# Altium integrated library Silicon Labs Clocks and Oscillators.IntLib: 678 symbols (part 36 of 45)
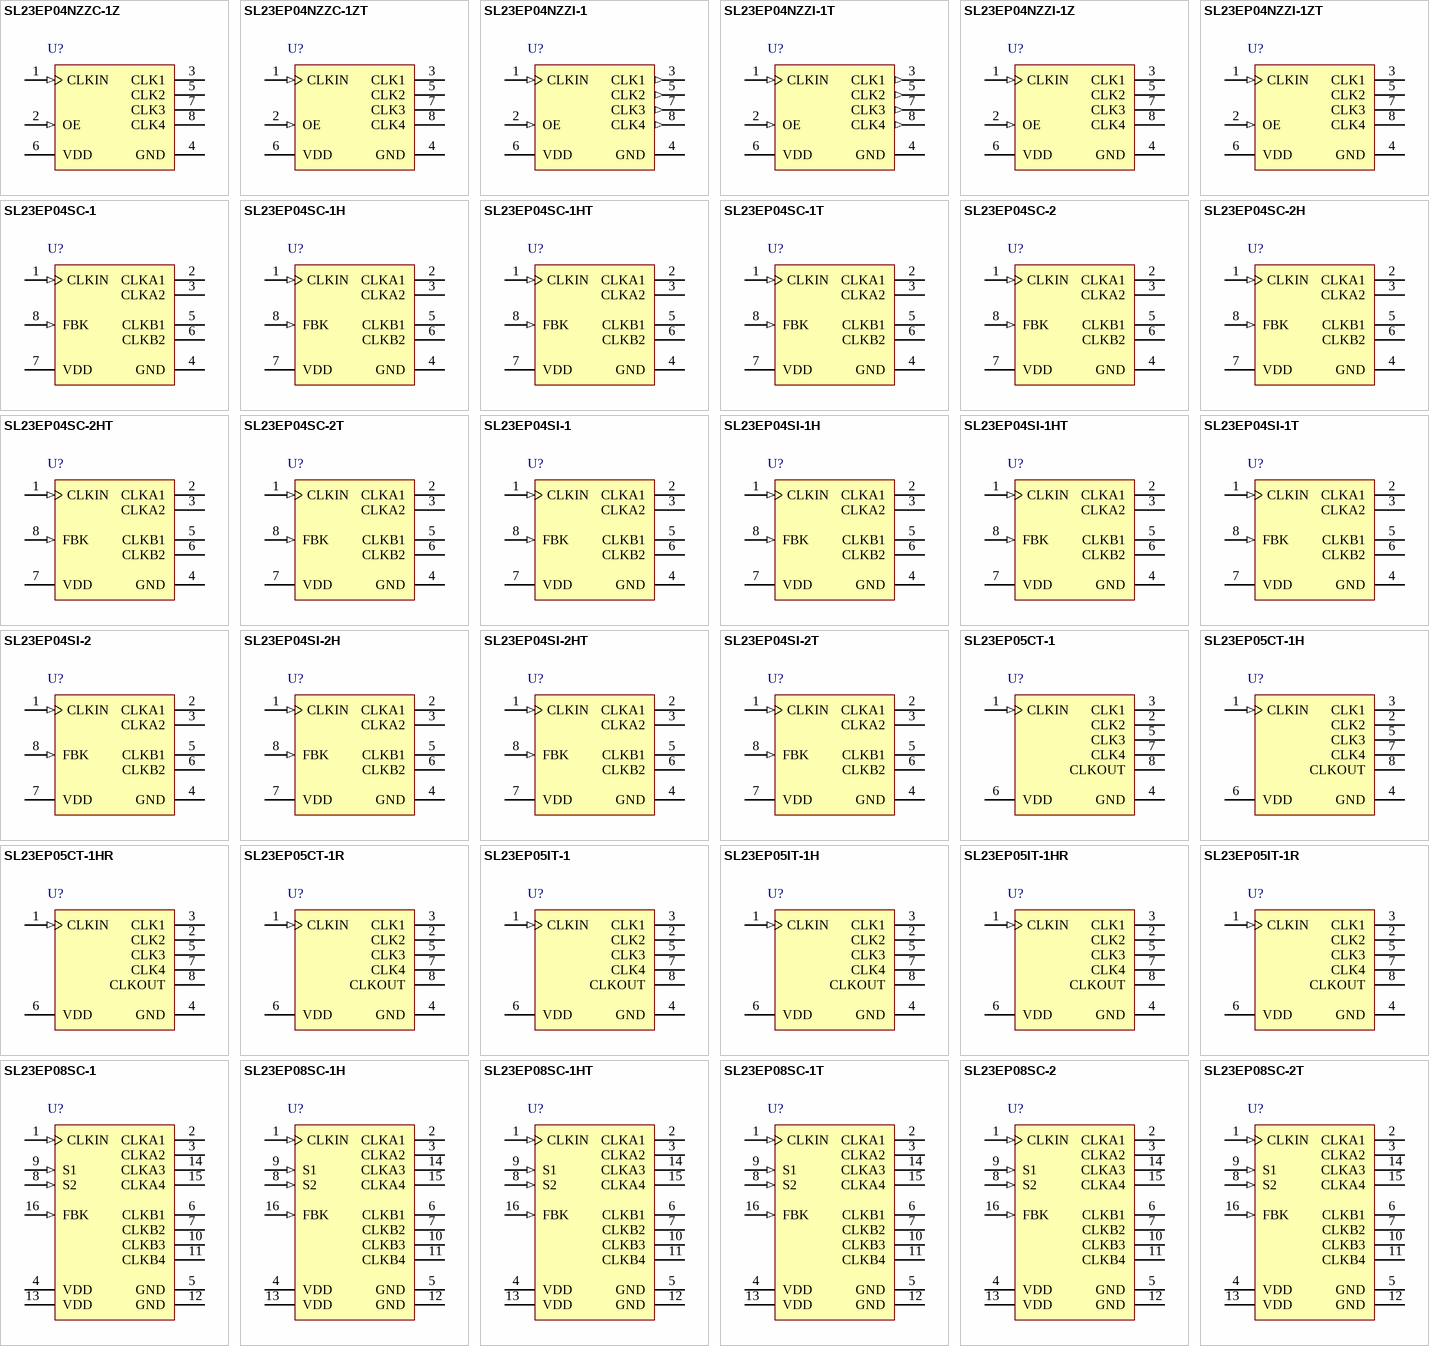
[diagram p79: symbols SL23EP04NZZC-1Z to SL23EP08SC-2T]

## SL23EP04SI-2HT
designator U?
Low Jitter and Skew Zero Delay Buffer (ZDB), 10 to 220 MHz, -40 to 85 degC, 8-pin SOIC, Tape and Reel; Manufacturer: Silicon Labs; PartNumber: SL23EP04SI-2HT; Output Format: LVCMOS; Sub-Family: Clock Buffers; DatasheetVersion: Rev. 2.1; PackageReference: SOIC-8; PackageDescription: 8-Pin Small-Outline Integrated Circuit, Body 4.9 x 3.9 mm, Pitch 1.27 mm; Supplier 1: Digi-Key; Supplier Part Number 1: SL23EP04SI-2HT-ND; Supplier 2: Mouser; Supplier Part Number 2: 634-SL23EP04SI-2HT; Frequency (MHz): 10 to 220; Packing: Tape and Reel; Mounting Technology: Surface Mount; ComponentLink1Description: Manufacturer URL; ComponentLink1URL: http://www.silabs.com/; ComponentLink2Description: Datasheet; ComponentLink2URL: http://www.silabs.com/Support%20Documents/TechnicalDocs/SL23EP04.pdf; ComponentLink3Description: Package Specification; ComponentLink3URL: http://www.silabs.com/Support%20Documents/TechnicalDocs/SL23EP04.pdf
footprint SLAB-SOIC-8_N (SOIC, 8-Leads, Body 5x4mm, Pitch 1.27mm, IPC Medium Density)
footprint SLAB-SOIC-8_L (SOIC, 8-Leads, Body 5x4mm, Pitch 1.27mm, IPC High Density)
footprint SLAB-SOIC-8_M (SOIC, 8-Leads, Body 5x4mm, Pitch 1.27mm, IPC Low Density)
pins: 1 CLKIN (in) "Reference Frequency Clock Input. Weak pull-down (250kohm).", 2 CLKA1 (hiz) "Buffered Clock Output Weak pull-down (250kohm).", 3 CLKA2 (hiz) "Buffered Clock Output. Weak pull-down (250kohm).", 4 GND (power) "Power Ground.", 5 CLKB1 (hiz) "Buffered Clock Output. Weak pull-down (250kohm).", 6 CLKB2 (hiz) "Buffered Clock Output. Weak pull-down (250kohm).", 7 VDD (power) "2.5V to 3.3V Power Supply.", 8 FBK (in) "PLL Feedback Input. This pin must be connected to one of the clock outputs."

## SL23EP04SI-2T
designator U?
Low Jitter and Skew Zero Delay Buffer (ZDB), 10 to 220 MHz, -40 to 85 degC, 8-pin SOIC, Tape and Reel; Manufacturer: Silicon Labs; PartNumber: SL23EP04SI-2T; Output Format: LVCMOS; Sub-Family: Clock Buffers; DatasheetVersion: Rev. 2.1; PackageReference: SOIC-8; PackageDescription: 8-Pin Small-Outline Integrated Circuit, Body 4.9 x 3.9 mm, Pitch 1.27 mm; Supplier 1: Digi-Key; Supplier Part Number 1: SL23EP04SI-2T-ND; Supplier 2: Mouser; Supplier Part Number 2: 634-SL23EP04SI-2T; Frequency (MHz): 10 to 220; Packing: Tape and Reel; Mounting Technology: Surface Mount; ComponentLink1Description: Manufacturer URL; ComponentLink1URL: http://www.silabs.com/; ComponentLink2Description: Datasheet; ComponentLink2URL: http://www.silabs.com/Support%20Documents/TechnicalDocs/SL23EP04.pdf; ComponentLink3Description: Package Specification; ComponentLink3URL: http://www.silabs.com/Support%20Documents/TechnicalDocs/SL23EP04.pdf
footprint SLAB-SOIC-8_N (SOIC, 8-Leads, Body 5x4mm, Pitch 1.27mm, IPC Medium Density)
footprint SLAB-SOIC-8_L (SOIC, 8-Leads, Body 5x4mm, Pitch 1.27mm, IPC High Density)
footprint SLAB-SOIC-8_M (SOIC, 8-Leads, Body 5x4mm, Pitch 1.27mm, IPC Low Density)
pins: 1 CLKIN (in) "Reference Frequency Clock Input. Weak pull-down (250kohm).", 2 CLKA1 (hiz) "Buffered Clock Output Weak pull-down (250kohm).", 3 CLKA2 (hiz) "Buffered Clock Output. Weak pull-down (250kohm).", 4 GND (power) "Power Ground.", 5 CLKB1 (hiz) "Buffered Clock Output. Weak pull-down (250kohm).", 6 CLKB2 (hiz) "Buffered Clock Output. Weak pull-down (250kohm).", 7 VDD (power) "2.5V to 3.3V Power Supply.", 8 FBK (in) "PLL Feedback Input. This pin must be connected to one of the clock outputs."

## SL23EP05CT-1
designator U?
Low Jitter and Skew Zero Delay Buffer (ZDB), 10 to 220 MHz, 0 to 70 degC, 8-pin SOIC , Tube; Manufacturer: Silicon Labs; PartNumber: SL23EP05CT-1; Output Format: LVCMOS; Sub-Family: Clock Buffers; DatasheetVersion: Rev. 0.0; PackageReference: SOIC-8; PackageDescription: 8-Pin Small-Outline Integrated Circuit, Body 4.9 x 3.9 mm, Pitch 1.27 mm; Frequency (MHz): 10 to 220; Packing: Tube; Mounting Technology: Surface Mount; ComponentLink1Description: Manufacturer URL; ComponentLink1URL: http://www.silabs.com/; ComponentLink2Description: Datasheet; ComponentLink2URL: http://www.silabs.com/Support%20Documents/TechnicalDocs/SL23EP05.pdf; ComponentLink3Description: Package Specification; ComponentLink3URL: http://www.silabs.com/Support%20Documents/TechnicalDocs/SL23EP04.pdf
footprint SLAB-SOIC-8_N (SOIC, 8-Leads, Body 5x4mm, Pitch 1.27mm, IPC Medium Density)
footprint SLAB-SOIC-8_L (SOIC, 8-Leads, Body 5x4mm, Pitch 1.27mm, IPC High Density)
footprint SLAB-SOIC-8_M (SOIC, 8-Leads, Body 5x4mm, Pitch 1.27mm, IPC Low Density)
pins: 1 CLKIN (in) "Reference Frequency Clock Input. Weak pull-down.", 2 CLK2 (hiz) "Buffered Clock Output Weak pull-down.", 3 CLK1 (hiz) "Buffered Clock Output. Weak pull-down.", 4 GND (power) "Power Ground.", 5 CLK3 (hiz) "Buffered Clock Output. Weak pull-down.", 6 VDD (power), 7 CLK4 (hiz) "Buffered Clock Output. Weak pull-down.", 8 CLKOUT (hiz) "Buffered Clock Output, Used for Internal Feedback to PLL Input. Weak pull-down."

## SL23EP05CT-1H
designator U?
Low Jitter and Skew Zero Delay Buffer (ZDB), 10 to 220 MHz, 0 to 70 degC, 8-pin SOIC , Tube; Manufacturer: Silicon Labs; PartNumber: SL23EP05CT-1H; Output Format: LVCMOS; Sub-Family: Clock Buffers; DatasheetVersion: Rev. 0.0; PackageReference: SOIC-8; PackageDescription: 8-Pin Small-Outline Integrated Circuit, Body 4.9 x 3.9 mm, Pitch 1.27 mm; Frequency (MHz): 10 to 220; Packing: Tube; Mounting Technology: Surface Mount; ComponentLink1Description: Manufacturer URL; ComponentLink1URL: http://www.silabs.com/; ComponentLink2Description: Datasheet; ComponentLink2URL: http://www.silabs.com/Support%20Documents/TechnicalDocs/SL23EP05.pdf; ComponentLink3Description: Package Specification; ComponentLink3URL: http://www.silabs.com/Support%20Documents/TechnicalDocs/SL23EP04.pdf
footprint SLAB-SOIC-8_N (SOIC, 8-Leads, Body 5x4mm, Pitch 1.27mm, IPC Medium Density)
footprint SLAB-SOIC-8_L (SOIC, 8-Leads, Body 5x4mm, Pitch 1.27mm, IPC High Density)
footprint SLAB-SOIC-8_M (SOIC, 8-Leads, Body 5x4mm, Pitch 1.27mm, IPC Low Density)
pins: 1 CLKIN (in) "Reference Frequency Clock Input. Weak pull-down.", 2 CLK2 (hiz) "Buffered Clock Output Weak pull-down.", 3 CLK1 (hiz) "Buffered Clock Output. Weak pull-down.", 4 GND (power) "Power Ground.", 5 CLK3 (hiz) "Buffered Clock Output. Weak pull-down.", 6 VDD (power), 7 CLK4 (hiz) "Buffered Clock Output. Weak pull-down.", 8 CLKOUT (hiz) "Buffered Clock Output, Used for Internal Feedback to PLL Input. Weak pull-down."

## SL23EP05CT-1HR
designator U?
Low Jitter and Skew Zero Delay Buffer (ZDB), 10 to 220 MHz, 0 to 70 degC, 8-pin SOIC , Tape and Reel; Manufacturer: Silicon Labs; PartNumber: SL23EP05CT-1HR; Output Format: LVCMOS; Sub-Family: Clock Buffers; DatasheetVersion: Rev. 0.0; PackageReference: SOIC-8; PackageDescription: 8-Pin Small-Outline Integrated Circuit, Body 4.9 x 3.9 mm, Pitch 1.27 mm; Frequency (MHz): 10 to 220; Packing: Tape and Reel; Mounting Technology: Surface Mount; ComponentLink1Description: Manufacturer URL; ComponentLink1URL: http://www.silabs.com/; ComponentLink2Description: Datasheet; ComponentLink2URL: http://www.silabs.com/Support%20Documents/TechnicalDocs/SL23EP05.pdf; ComponentLink3Description: Package Specification; ComponentLink3URL: http://www.silabs.com/Support%20Documents/TechnicalDocs/SL23EP04.pdf
footprint SLAB-SOIC-8_N (SOIC, 8-Leads, Body 5x4mm, Pitch 1.27mm, IPC Medium Density)
footprint SLAB-SOIC-8_L (SOIC, 8-Leads, Body 5x4mm, Pitch 1.27mm, IPC High Density)
footprint SLAB-SOIC-8_M (SOIC, 8-Leads, Body 5x4mm, Pitch 1.27mm, IPC Low Density)
pins: 1 CLKIN (in) "Reference Frequency Clock Input. Weak pull-down.", 2 CLK2 (hiz) "Buffered Clock Output Weak pull-down.", 3 CLK1 (hiz) "Buffered Clock Output. Weak pull-down.", 4 GND (power) "Power Ground.", 5 CLK3 (hiz) "Buffered Clock Output. Weak pull-down.", 6 VDD (power), 7 CLK4 (hiz) "Buffered Clock Output. Weak pull-down.", 8 CLKOUT (hiz) "Buffered Clock Output, Used for Internal Feedback to PLL Input. Weak pull-down."

## SL23EP05CT-1R
designator U?
Low Jitter and Skew Zero Delay Buffer (ZDB), 10 to 220 MHz, 0 to 70 degC, 8-pin SOIC , Tape and Reel; Manufacturer: Silicon Labs; PartNumber: SL23EP05CT-1R; Output Format: LVCMOS; Sub-Family: Clock Buffers; DatasheetVersion: Rev. 0.0; PackageReference: SOIC-8; PackageDescription: 8-Pin Small-Outline Integrated Circuit, Body 4.9 x 3.9 mm, Pitch 1.27 mm; Frequency (MHz): 10 to 220; Packing: Tape and Reel; Mounting Technology: Surface Mount; ComponentLink1Description: Manufacturer URL; ComponentLink1URL: http://www.silabs.com/; ComponentLink2Description: Datasheet; ComponentLink2URL: http://www.silabs.com/Support%20Documents/TechnicalDocs/SL23EP05.pdf; ComponentLink3Description: Package Specification; ComponentLink3URL: http://www.silabs.com/Support%20Documents/TechnicalDocs/SL23EP04.pdf
footprint SLAB-SOIC-8_N (SOIC, 8-Leads, Body 5x4mm, Pitch 1.27mm, IPC Medium Density)
footprint SLAB-SOIC-8_L (SOIC, 8-Leads, Body 5x4mm, Pitch 1.27mm, IPC High Density)
footprint SLAB-SOIC-8_M (SOIC, 8-Leads, Body 5x4mm, Pitch 1.27mm, IPC Low Density)
pins: 1 CLKIN (in) "Reference Frequency Clock Input. Weak pull-down.", 2 CLK2 (hiz) "Buffered Clock Output Weak pull-down.", 3 CLK1 (hiz) "Buffered Clock Output. Weak pull-down.", 4 GND (power) "Power Ground.", 5 CLK3 (hiz) "Buffered Clock Output. Weak pull-down.", 6 VDD (power), 7 CLK4 (hiz) "Buffered Clock Output. Weak pull-down.", 8 CLKOUT (hiz) "Buffered Clock Output, Used for Internal Feedback to PLL Input. Weak pull-down."

## SL23EP05IT-1
designator U?
Low Jitter and Skew Zero Delay Buffer (ZDB), 10 to 220 MHz, -40 to 85 degC, 8-pin SOIC , Tube; Manufacturer: Silicon Labs; PartNumber: SL23EP05IT-1; Output Format: LVCMOS; Sub-Family: Clock Buffers; DatasheetVersion: Rev. 0.0; PackageReference: SOIC-8; PackageDescription: 8-Pin Small-Outline Integrated Circuit, Body 4.9 x 3.9 mm, Pitch 1.27 mm; Frequency (MHz): 10 to 220; Packing: Tube; Mounting Technology: Surface Mount; ComponentLink1Description: Manufacturer URL; ComponentLink1URL: http://www.silabs.com/; ComponentLink2Description: Datasheet; ComponentLink2URL: http://www.silabs.com/Support%20Documents/TechnicalDocs/SL23EP05.pdf; ComponentLink3Description: Package Specification; ComponentLink3URL: http://www.silabs.com/Support%20Documents/TechnicalDocs/SL23EP04.pdf
footprint SLAB-SOIC-8_N (SOIC, 8-Leads, Body 5x4mm, Pitch 1.27mm, IPC Medium Density)
footprint SLAB-SOIC-8_L (SOIC, 8-Leads, Body 5x4mm, Pitch 1.27mm, IPC High Density)
footprint SLAB-SOIC-8_M (SOIC, 8-Leads, Body 5x4mm, Pitch 1.27mm, IPC Low Density)
pins: 1 CLKIN (in) "Reference Frequency Clock Input. Weak pull-down.", 2 CLK2 (hiz) "Buffered Clock Output Weak pull-down.", 3 CLK1 (hiz) "Buffered Clock Output. Weak pull-down.", 4 GND (power) "Power Ground.", 5 CLK3 (hiz) "Buffered Clock Output. Weak pull-down.", 6 VDD (power), 7 CLK4 (hiz) "Buffered Clock Output. Weak pull-down.", 8 CLKOUT (hiz) "Buffered Clock Output, Used for Internal Feedback to PLL Input. Weak pull-down."

## SL23EP05IT-1H
designator U?
Low Jitter and Skew Zero Delay Buffer (ZDB), 10 to 220 MHz, -40 to 85 degC, 8-pin SOIC , Tube; Manufacturer: Silicon Labs; PartNumber: SL23EP05IT-1H; Output Format: LVCMOS; Sub-Family: Clock Buffers; DatasheetVersion: Rev. 0.0; PackageReference: SOIC-8; PackageDescription: 8-Pin Small-Outline Integrated Circuit, Body 4.9 x 3.9 mm, Pitch 1.27 mm; Frequency (MHz): 10 to 220; Packing: Tube; Mounting Technology: Surface Mount; ComponentLink1Description: Manufacturer URL; ComponentLink1URL: http://www.silabs.com/; ComponentLink2Description: Datasheet; ComponentLink2URL: http://www.silabs.com/Support%20Documents/TechnicalDocs/SL23EP05.pdf; ComponentLink3Description: Package Specification; ComponentLink3URL: http://www.silabs.com/Support%20Documents/TechnicalDocs/SL23EP04.pdf
footprint SLAB-SOIC-8_N (SOIC, 8-Leads, Body 5x4mm, Pitch 1.27mm, IPC Medium Density)
footprint SLAB-SOIC-8_L (SOIC, 8-Leads, Body 5x4mm, Pitch 1.27mm, IPC High Density)
footprint SLAB-SOIC-8_M (SOIC, 8-Leads, Body 5x4mm, Pitch 1.27mm, IPC Low Density)
pins: 1 CLKIN (in) "Reference Frequency Clock Input. Weak pull-down.", 2 CLK2 (hiz) "Buffered Clock Output Weak pull-down.", 3 CLK1 (hiz) "Buffered Clock Output. Weak pull-down.", 4 GND (power) "Power Ground.", 5 CLK3 (hiz) "Buffered Clock Output. Weak pull-down.", 6 VDD (power), 7 CLK4 (hiz) "Buffered Clock Output. Weak pull-down.", 8 CLKOUT (hiz) "Buffered Clock Output, Used for Internal Feedback to PLL Input. Weak pull-down."

## SL23EP05IT-1HR
designator U?
Low Jitter and Skew Zero Delay Buffer (ZDB), 10 to 220 MHz, -40 to 85 degC, 8-pin SOIC , Tape and Reel; Manufacturer: Silicon Labs; PartNumber: SL23EP05IT-1HR; Output Format: LVCMOS; Sub-Family: Clock Buffers; DatasheetVersion: Rev. 0.0; PackageReference: SOIC-8; PackageDescription: 8-Pin Small-Outline Integrated Circuit, Body 4.9 x 3.9 mm, Pitch 1.27 mm; Frequency (MHz): 10 to 220; Packing: Tape and Reel; Mounting Technology: Surface Mount; ComponentLink1Description: Manufacturer URL; ComponentLink1URL: http://www.silabs.com/; ComponentLink2Description: Datasheet; ComponentLink2URL: http://www.silabs.com/Support%20Documents/TechnicalDocs/SL23EP05.pdf; ComponentLink3Description: Package Specification; ComponentLink3URL: http://www.silabs.com/Support%20Documents/TechnicalDocs/SL23EP04.pdf
footprint SLAB-SOIC-8_N (SOIC, 8-Leads, Body 5x4mm, Pitch 1.27mm, IPC Medium Density)
footprint SLAB-SOIC-8_L (SOIC, 8-Leads, Body 5x4mm, Pitch 1.27mm, IPC High Density)
footprint SLAB-SOIC-8_M (SOIC, 8-Leads, Body 5x4mm, Pitch 1.27mm, IPC Low Density)
pins: 1 CLKIN (in) "Reference Frequency Clock Input. Weak pull-down.", 2 CLK2 (hiz) "Buffered Clock Output Weak pull-down.", 3 CLK1 (hiz) "Buffered Clock Output. Weak pull-down.", 4 GND (power) "Power Ground.", 5 CLK3 (hiz) "Buffered Clock Output. Weak pull-down.", 6 VDD (power), 7 CLK4 (hiz) "Buffered Clock Output. Weak pull-down.", 8 CLKOUT (hiz) "Buffered Clock Output, Used for Internal Feedback to PLL Input. Weak pull-down."

## SL23EP05IT-1R
designator U?
Low Jitter and Skew Zero Delay Buffer (ZDB), 10 to 220 MHz, -40 to 85 degC, 8-pin SOIC , Tape and Reel; Manufacturer: Silicon Labs; PartNumber: SL23EP05IT-1R; Output Format: LVCMOS; Sub-Family: Clock Buffers; DatasheetVersion: Rev. 0.0; PackageReference: SOIC-8; PackageDescription: 8-Pin Small-Outline Integrated Circuit, Body 4.9 x 3.9 mm, Pitch 1.27 mm; Frequency (MHz): 10 to 220; Packing: Tape and Reel; Mounting Technology: Surface Mount; ComponentLink1Description: Manufacturer URL; ComponentLink1URL: http://www.silabs.com/; ComponentLink2Description: Datasheet; ComponentLink2URL: http://www.silabs.com/Support%20Documents/TechnicalDocs/SL23EP05.pdf; ComponentLink3Description: Package Specification; ComponentLink3URL: http://www.silabs.com/Support%20Documents/TechnicalDocs/SL23EP04.pdf
footprint SLAB-SOIC-8_N (SOIC, 8-Leads, Body 5x4mm, Pitch 1.27mm, IPC Medium Density)
footprint SLAB-SOIC-8_L (SOIC, 8-Leads, Body 5x4mm, Pitch 1.27mm, IPC High Density)
footprint SLAB-SOIC-8_M (SOIC, 8-Leads, Body 5x4mm, Pitch 1.27mm, IPC Low Density)
pins: 1 CLKIN (in) "Reference Frequency Clock Input. Weak pull-down.", 2 CLK2 (hiz) "Buffered Clock Output Weak pull-down.", 3 CLK1 (hiz) "Buffered Clock Output. Weak pull-down.", 4 GND (power) "Power Ground.", 5 CLK3 (hiz) "Buffered Clock Output. Weak pull-down.", 6 VDD (power), 7 CLK4 (hiz) "Buffered Clock Output. Weak pull-down.", 8 CLKOUT (hiz) "Buffered Clock Output, Used for Internal Feedback to PLL Input. Weak pull-down."

## SL23EP08SC-1
designator U?
Low Jitter and Skew Zero Delay Buffer (ZDB), 10 to 220 MHz, 0 to 70 degC, 16-pin SOIC, Tube; Manufacturer: Silicon Labs; PartNumber: SL23EP08SC-1; Output Format: LVCMOS; Sub-Family: Clock Buffers; DatasheetVersion: Rev. 1.0; PackageReference: SOIC-16; PackageDescription: 16-Pin Small-Outline Integrated Circuit, Body 9.9 x 3.9 mm, Pitch 1.27 mm; Supplier 1: Digi-Key; Supplier Part Number 1: SL23EP08SC-1-ND; Supplier 2: Mouser; Supplier Part Number 2: 634-SL23EP08SC-1; Frequency (MHz): 10 to 220; Packing: Tube; Mounting Technology: Surface Mount; ComponentLink1Description: Manufacturer URL; ComponentLink1URL: http://www.silabs.com/; ComponentLink2Description: Datasheet; ComponentLink2URL: http://www.silabs.com/Support%20Documents/TechnicalDocs/SL23EP08.pdf; ComponentLink3Description: Package Specification; ComponentLink3URL: http://www.silabs.com/Support%20Documents/TechnicalDocs/SL2309.pdf
footprint SLAB-SOIC-16_N (SOIC, 16-Leads, Body 10x4mm, Pitch 1.27mm, IPC Medium Density)
footprint SLAB-SOIC-16_L (SOIC, 16-Leads, Body 10x4mm, Pitch 1.27mm, IPC High Density)
footprint SLAB-SOIC-16_M (SOIC, 16-Leads, Body 10x4mm, Pitch 1.27mm, IPC Low Density)
pins: 1 CLKIN (in) "Reference Frequency Clock Input. 5V tolerant input. Weak pull-down (250k ohm)", 2 CLKA1 (hiz) "Buffered Clock Output, Bank A. Weak pull-down (250k ohm).", 3 CLKA2 (hiz) "Buffered Clock Output, Bank A. Weak pull-down (250k ohm).", 4 VDD (power) "3.3V or 2.5V Power Supply.", 5 GND (power) "Power Ground.", 6 CLKB1 (hiz) "Buffered Clock Output, Bank B. Weak pull-down (250k ohm).", 7 CLKB2 (hiz) "Buffered Clock Output, Bank B. Weak pull-down (250k ohm).", 8 S2 (in) "Select Input, select pin S2. Weak pull-up (250k ohm).", 9 S1 (in) "Select Input, select pin S1. Weak pull-up (250k ohm).", 10 CLKB3 (hiz) "Buffered Clock Output, Bank B. Weak pull-down (250k ohm).", 11 CLKB4 (hiz) "Buffered Clock Output, Bank B. Weak pull-down (250k ohm).", 12 GND (power) "Power Ground.", 13 VDD (power) "3.3V or 2.5V Power Supply.", 14 CLKA3 (hiz) "Buffered Clock Output, Bank A. Weak pull-down (250k ohm).", 15 CLKA4 (hiz) "Buffered Clock Output, Bank A. Weak pull-down (250k ohm).", 16 FBK (in) "PLL Feedback input."

## SL23EP08SC-1H
designator U?
Low Jitter and Skew Zero Delay Buffer (ZDB), 10 to 220 MHz, 0 to 70 degC, 16-pin SOIC, Tube; Manufacturer: Silicon Labs; PartNumber: SL23EP08SC-1H; Output Format: LVCMOS; Sub-Family: Clock Buffers; DatasheetVersion: Rev. 1.0; PackageReference: SOIC-16; PackageDescription: 16-Pin Small-Outline Integrated Circuit, Body 9.9 x 3.9 mm, Pitch 1.27 mm; Supplier 1: Digi-Key; Supplier Part Number 1: SL23EP08SC-1H-ND; Supplier 2: Mouser; Supplier Part Number 2: 634-SL23EP08SC-1H; Frequency (MHz): 10 to 220; Packing: Tube; Mounting Technology: Surface Mount; ComponentLink1Description: Manufacturer URL; ComponentLink1URL: http://www.silabs.com/; ComponentLink2Description: Datasheet; ComponentLink2URL: http://www.silabs.com/Support%20Documents/TechnicalDocs/SL23EP08.pdf; ComponentLink3Description: Package Specification; ComponentLink3URL: http://www.silabs.com/Support%20Documents/TechnicalDocs/SL2309.pdf
footprint SLAB-SOIC-16_N (SOIC, 16-Leads, Body 10x4mm, Pitch 1.27mm, IPC Medium Density)
footprint SLAB-SOIC-16_L (SOIC, 16-Leads, Body 10x4mm, Pitch 1.27mm, IPC High Density)
footprint SLAB-SOIC-16_M (SOIC, 16-Leads, Body 10x4mm, Pitch 1.27mm, IPC Low Density)
pins: 1 CLKIN (in) "Reference Frequency Clock Input. 5V tolerant input. Weak pull-down (250k ohm)", 2 CLKA1 (hiz) "Buffered Clock Output, Bank A. Weak pull-down (250k ohm).", 3 CLKA2 (hiz) "Buffered Clock Output, Bank A. Weak pull-down (250k ohm).", 4 VDD (power) "3.3V or 2.5V Power Supply.", 5 GND (power) "Power Ground.", 6 CLKB1 (hiz) "Buffered Clock Output, Bank B. Weak pull-down (250k ohm).", 7 CLKB2 (hiz) "Buffered Clock Output, Bank B. Weak pull-down (250k ohm).", 8 S2 (in) "Select Input, select pin S2. Weak pull-up (250k ohm).", 9 S1 (in) "Select Input, select pin S1. Weak pull-up (250k ohm).", 10 CLKB3 (hiz) "Buffered Clock Output, Bank B. Weak pull-down (250k ohm).", 11 CLKB4 (hiz) "Buffered Clock Output, Bank B. Weak pull-down (250k ohm).", 12 GND (power) "Power Ground.", 13 VDD (power) "3.3V or 2.5V Power Supply.", 14 CLKA3 (hiz) "Buffered Clock Output, Bank A. Weak pull-down (250k ohm).", 15 CLKA4 (hiz) "Buffered Clock Output, Bank A. Weak pull-down (250k ohm).", 16 FBK (in) "PLL Feedback input."

## SL23EP08SC-1HT
designator U?
Low Jitter and Skew Zero Delay Buffer (ZDB), 10 to 220 MHz, 0 to 70 degC, 16-pin SOIC, Tape and Reel; Manufacturer: Silicon Labs; PartNumber: SL23EP08SC-1HT; Output Format: LVCMOS; Sub-Family: Clock Buffers; DatasheetVersion: Rev. 1.0; PackageReference: SOIC-16; PackageDescription: 16-Pin Small-Outline Integrated Circuit, Body 9.9 x 3.9 mm, Pitch 1.27 mm; Supplier 1: Digi-Key; Supplier Part Number 1: SL23EP08SC-1HT-ND; Supplier 2: Mouser; Supplier Part Number 2: 634-SL23EP08SC-1HT; Frequency (MHz): 10 to 220; Packing: Tape and Reel; Mounting Technology: Surface Mount; ComponentLink1Description: Manufacturer URL; ComponentLink1URL: http://www.silabs.com/; ComponentLink2Description: Datasheet; ComponentLink2URL: http://www.silabs.com/Support%20Documents/TechnicalDocs/SL23EP08.pdf; ComponentLink3Description: Package Specification; ComponentLink3URL: http://www.silabs.com/Support%20Documents/TechnicalDocs/SL2309.pdf
footprint SLAB-SOIC-16_N (SOIC, 16-Leads, Body 10x4mm, Pitch 1.27mm, IPC Medium Density)
footprint SLAB-SOIC-16_L (SOIC, 16-Leads, Body 10x4mm, Pitch 1.27mm, IPC High Density)
footprint SLAB-SOIC-16_M (SOIC, 16-Leads, Body 10x4mm, Pitch 1.27mm, IPC Low Density)
pins: 1 CLKIN (in) "Reference Frequency Clock Input. 5V tolerant input. Weak pull-down (250k ohm)", 2 CLKA1 (hiz) "Buffered Clock Output, Bank A. Weak pull-down (250k ohm).", 3 CLKA2 (hiz) "Buffered Clock Output, Bank A. Weak pull-down (250k ohm).", 4 VDD (power) "3.3V or 2.5V Power Supply.", 5 GND (power) "Power Ground.", 6 CLKB1 (hiz) "Buffered Clock Output, Bank B. Weak pull-down (250k ohm).", 7 CLKB2 (hiz) "Buffered Clock Output, Bank B. Weak pull-down (250k ohm).", 8 S2 (in) "Select Input, select pin S2. Weak pull-up (250k ohm).", 9 S1 (in) "Select Input, select pin S1. Weak pull-up (250k ohm).", 10 CLKB3 (hiz) "Buffered Clock Output, Bank B. Weak pull-down (250k ohm).", 11 CLKB4 (hiz) "Buffered Clock Output, Bank B. Weak pull-down (250k ohm).", 12 GND (power) "Power Ground.", 13 VDD (power) "3.3V or 2.5V Power Supply.", 14 CLKA3 (hiz) "Buffered Clock Output, Bank A. Weak pull-down (250k ohm).", 15 CLKA4 (hiz) "Buffered Clock Output, Bank A. Weak pull-down (250k ohm).", 16 FBK (in) "PLL Feedback input."

## SL23EP08SC-1T
designator U?
Low Jitter and Skew Zero Delay Buffer (ZDB), 10 to 220 MHz, 0 to 70 degC, 16-pin SOIC, Tape and Reel; Manufacturer: Silicon Labs; PartNumber: SL23EP08SC-1T; Output Format: LVCMOS; Sub-Family: Clock Buffers; DatasheetVersion: Rev. 1.0; PackageReference: SOIC-16; PackageDescription: 16-Pin Small-Outline Integrated Circuit, Body 9.9 x 3.9 mm, Pitch 1.27 mm; Supplier 1: Digi-Key; Supplier Part Number 1: SL23EP08SC-1T-ND; Supplier 2: Mouser; Supplier Part Number 2: 634-SL23EP08SC-1T; Frequency (MHz): 10 to 220; Packing: Tape and Reel; Mounting Technology: Surface Mount; ComponentLink1Description: Manufacturer URL; ComponentLink1URL: http://www.silabs.com/; ComponentLink2Description: Datasheet; ComponentLink2URL: http://www.silabs.com/Support%20Documents/TechnicalDocs/SL23EP08.pdf; ComponentLink3Description: Package Specification; ComponentLink3URL: http://www.silabs.com/Support%20Documents/TechnicalDocs/SL2309.pdf
footprint SLAB-SOIC-16_N (SOIC, 16-Leads, Body 10x4mm, Pitch 1.27mm, IPC Medium Density)
footprint SLAB-SOIC-16_L (SOIC, 16-Leads, Body 10x4mm, Pitch 1.27mm, IPC High Density)
footprint SLAB-SOIC-16_M (SOIC, 16-Leads, Body 10x4mm, Pitch 1.27mm, IPC Low Density)
pins: 1 CLKIN (in) "Reference Frequency Clock Input. 5V tolerant input. Weak pull-down (250k ohm)", 2 CLKA1 (hiz) "Buffered Clock Output, Bank A. Weak pull-down (250k ohm).", 3 CLKA2 (hiz) "Buffered Clock Output, Bank A. Weak pull-down (250k ohm).", 4 VDD (power) "3.3V or 2.5V Power Supply.", 5 GND (power) "Power Ground.", 6 CLKB1 (hiz) "Buffered Clock Output, Bank B. Weak pull-down (250k ohm).", 7 CLKB2 (hiz) "Buffered Clock Output, Bank B. Weak pull-down (250k ohm).", 8 S2 (in) "Select Input, select pin S2. Weak pull-up (250k ohm).", 9 S1 (in) "Select Input, select pin S1. Weak pull-up (250k ohm).", 10 CLKB3 (hiz) "Buffered Clock Output, Bank B. Weak pull-down (250k ohm).", 11 CLKB4 (hiz) "Buffered Clock Output, Bank B. Weak pull-down (250k ohm).", 12 GND (power) "Power Ground.", 13 VDD (power) "3.3V or 2.5V Power Supply.", 14 CLKA3 (hiz) "Buffered Clock Output, Bank A. Weak pull-down (250k ohm).", 15 CLKA4 (hiz) "Buffered Clock Output, Bank A. Weak pull-down (250k ohm).", 16 FBK (in) "PLL Feedback input."

## SL23EP08SC-2
designator U?
Low Jitter and Skew Zero Delay Buffer (ZDB), 10 to 220 MHz, 0 to 70 degC, 16-pin SOIC, Tube; Manufacturer: Silicon Labs; PartNumber: SL23EP08SC-2; Output Format: LVCMOS; Sub-Family: Clock Buffers; DatasheetVersion: Rev. 1.0; PackageReference: SOIC-16; PackageDescription: 16-Pin Small-Outline Integrated Circuit, Body 9.9 x 3.9 mm, Pitch 1.27 mm; Supplier 1: Digi-Key; Supplier Part Number 1: SL23EP08SC-2-ND; Supplier 2: Mouser; Supplier Part Number 2: 634-SL23EP08SC-2; Frequency (MHz): 10 to 220; Packing: Tube; Mounting Technology: Surface Mount; ComponentLink1Description: Manufacturer URL; ComponentLink1URL: http://www.silabs.com/; ComponentLink2Description: Datasheet; ComponentLink2URL: http://www.silabs.com/Support%20Documents/TechnicalDocs/SL23EP08.pdf; ComponentLink3Description: Package Specification; ComponentLink3URL: http://www.silabs.com/Support%20Documents/TechnicalDocs/SL2309.pdf
footprint SLAB-SOIC-16_N (SOIC, 16-Leads, Body 10x4mm, Pitch 1.27mm, IPC Medium Density)
footprint SLAB-SOIC-16_L (SOIC, 16-Leads, Body 10x4mm, Pitch 1.27mm, IPC High Density)
footprint SLAB-SOIC-16_M (SOIC, 16-Leads, Body 10x4mm, Pitch 1.27mm, IPC Low Density)
pins: 1 CLKIN (in) "Reference Frequency Clock Input. 5V tolerant input. Weak pull-down (250k ohm)", 2 CLKA1 (hiz) "Buffered Clock Output, Bank A. Weak pull-down (250k ohm).", 3 CLKA2 (hiz) "Buffered Clock Output, Bank A. Weak pull-down (250k ohm).", 4 VDD (power) "3.3V or 2.5V Power Supply.", 5 GND (power) "Power Ground.", 6 CLKB1 (hiz) "Buffered Clock Output, Bank B. Weak pull-down (250k ohm).", 7 CLKB2 (hiz) "Buffered Clock Output, Bank B. Weak pull-down (250k ohm).", 8 S2 (in) "Select Input, select pin S2. Weak pull-up (250k ohm).", 9 S1 (in) "Select Input, select pin S1. Weak pull-up (250k ohm).", 10 CLKB3 (hiz) "Buffered Clock Output, Bank B. Weak pull-down (250k ohm).", 11 CLKB4 (hiz) "Buffered Clock Output, Bank B. Weak pull-down (250k ohm).", 12 GND (power) "Power Ground.", 13 VDD (power) "3.3V or 2.5V Power Supply.", 14 CLKA3 (hiz) "Buffered Clock Output, Bank A. Weak pull-down (250k ohm).", 15 CLKA4 (hiz) "Buffered Clock Output, Bank A. Weak pull-down (250k ohm).", 16 FBK (in) "PLL Feedback input."

## SL23EP08SC-2T
designator U?
Low Jitter and Skew Zero Delay Buffer (ZDB), 10 to 220 MHz, 0 to 70 degC, 16-pin SOIC, Tape and Reel; Manufacturer: Silicon Labs; PartNumber: SL23EP08SC-2T; Output Format: LVCMOS; Sub-Family: Clock Buffers; DatasheetVersion: Rev. 1.0; PackageReference: SOIC-16; PackageDescription: 16-Pin Small-Outline Integrated Circuit, Body 9.9 x 3.9 mm, Pitch 1.27 mm; Supplier 1: Digi-Key; Supplier Part Number 1: SL23EP08SC-2T-ND; Supplier 2: Mouser; Supplier Part Number 2: 634-SL23EP08SC-2T; Frequency (MHz): 10 to 220; Packing: Tape and Reel; Mounting Technology: Surface Mount; ComponentLink1Description: Manufacturer URL; ComponentLink1URL: http://www.silabs.com/; ComponentLink2Description: Datasheet; ComponentLink2URL: http://www.silabs.com/Support%20Documents/TechnicalDocs/SL23EP08.pdf; ComponentLink3Description: Package Specification; ComponentLink3URL: http://www.silabs.com/Support%20Documents/TechnicalDocs/SL2309.pdf
footprint SLAB-SOIC-16_N (SOIC, 16-Leads, Body 10x4mm, Pitch 1.27mm, IPC Medium Density)
footprint SLAB-SOIC-16_L (SOIC, 16-Leads, Body 10x4mm, Pitch 1.27mm, IPC High Density)
footprint SLAB-SOIC-16_M (SOIC, 16-Leads, Body 10x4mm, Pitch 1.27mm, IPC Low Density)
pins: 1 CLKIN (in) "Reference Frequency Clock Input. 5V tolerant input. Weak pull-down (250k ohm)", 2 CLKA1 (hiz) "Buffered Clock Output, Bank A. Weak pull-down (250k ohm).", 3 CLKA2 (hiz) "Buffered Clock Output, Bank A. Weak pull-down (250k ohm).", 4 VDD (power) "3.3V or 2.5V Power Supply.", 5 GND (power) "Power Ground.", 6 CLKB1 (hiz) "Buffered Clock Output, Bank B. Weak pull-down (250k ohm).", 7 CLKB2 (hiz) "Buffered Clock Output, Bank B. Weak pull-down (250k ohm).", 8 S2 (in) "Select Input, select pin S2. Weak pull-up (250k ohm).", 9 S1 (in) "Select Input, select pin S1. Weak pull-up (250k ohm).", 10 CLKB3 (hiz) "Buffered Clock Output, Bank B. Weak pull-down (250k ohm).", 11 CLKB4 (hiz) "Buffered Clock Output, Bank B. Weak pull-down (250k ohm).", 12 GND (power) "Power Ground.", 13 VDD (power) "3.3V or 2.5V Power Supply.", 14 CLKA3 (hiz) "Buffered Clock Output, Bank A. Weak pull-down (250k ohm).", 15 CLKA4 (hiz) "Buffered Clock Output, Bank A. Weak pull-down (250k ohm).", 16 FBK (in) "PLL Feedback input."

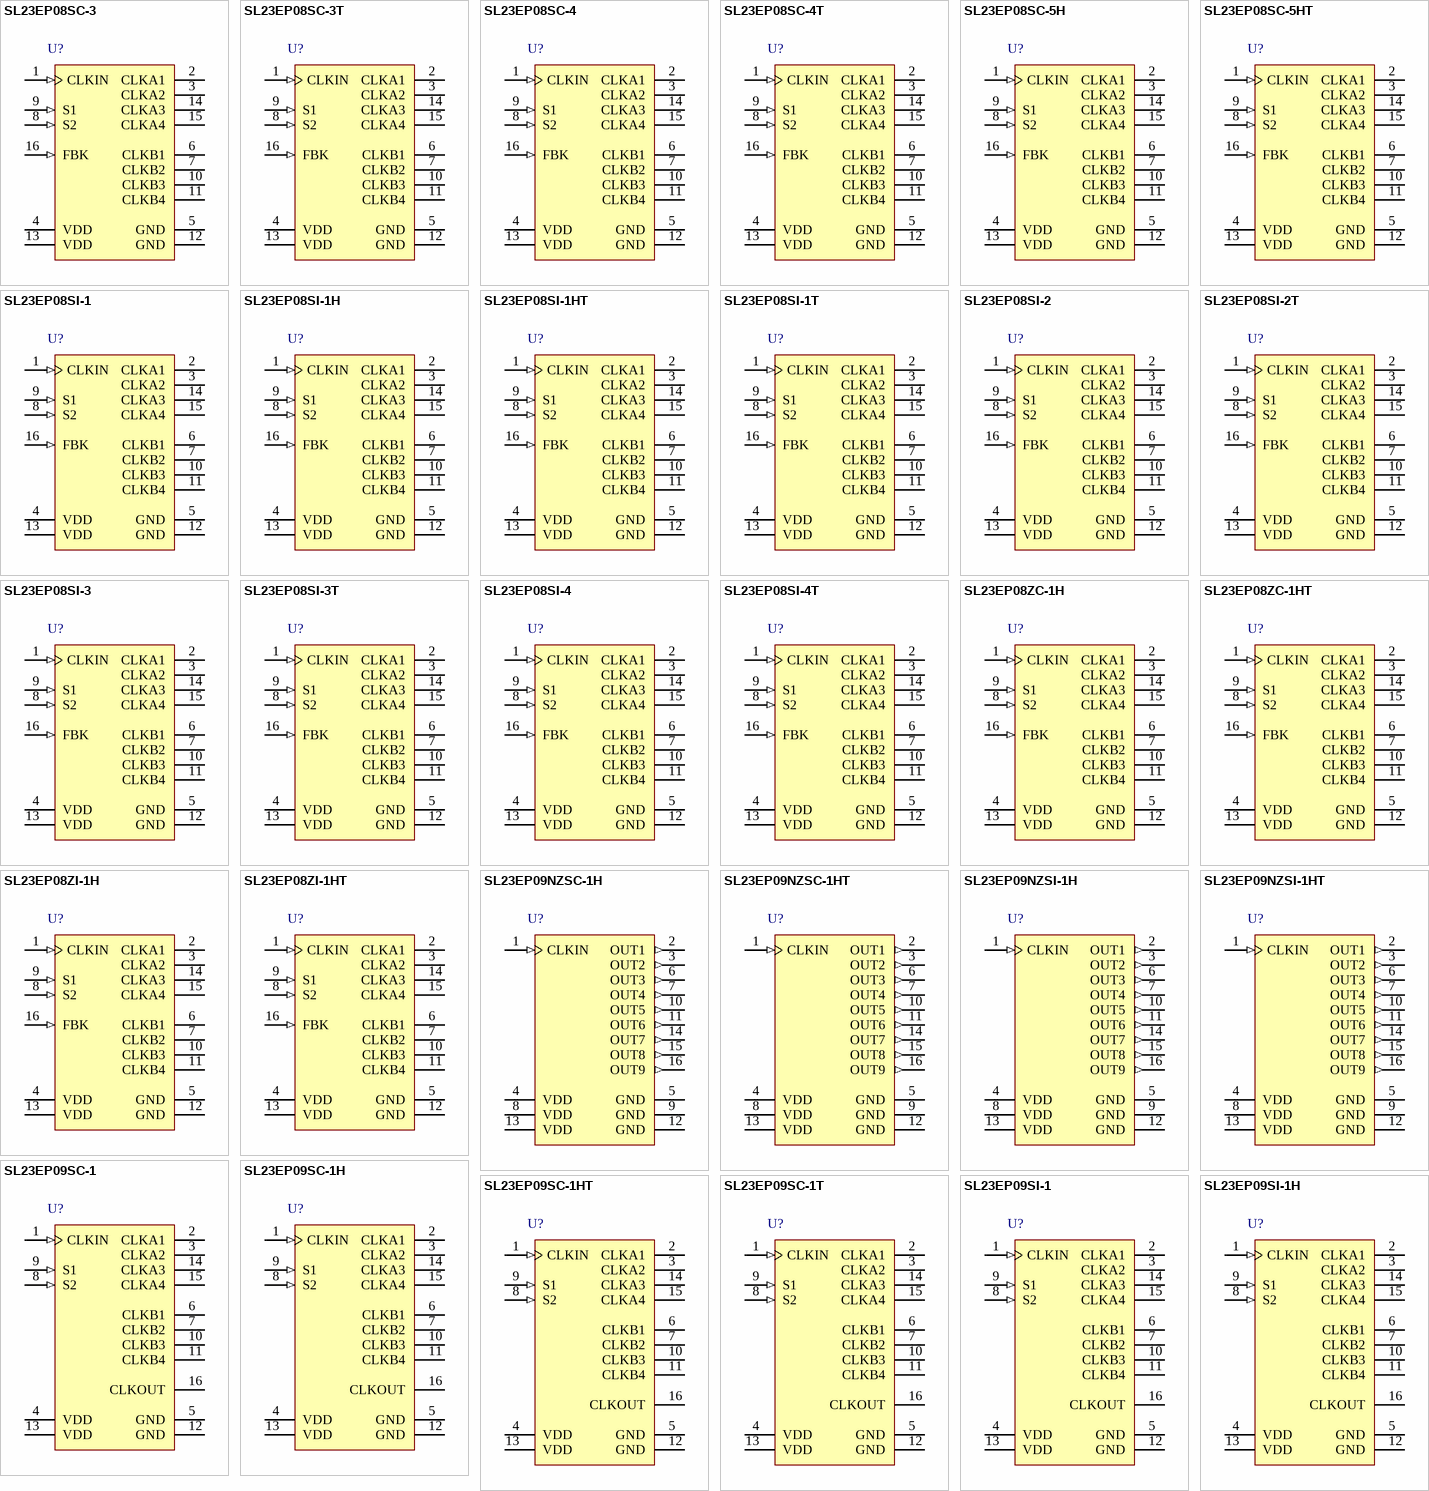
[diagram p35: symbols SL23EP08SC-3 to SL23EP09SI-1H]

## SL23EP08SC-3
designator U?
Low Jitter and Skew Zero Delay Buffer (ZDB), 10 to 220 MHz, 0 to 70 degC, 16-pin SOIC, Tube; Manufacturer: Silicon Labs; PartNumber: SL23EP08SC-3; Output Format: LVCMOS; Sub-Family: Clock Buffers; DatasheetVersion: Rev. 1.0; PackageReference: SOIC-16; PackageDescription: 16-Pin Small-Outline Integrated Circuit, Body 9.9 x 3.9 mm, Pitch 1.27 mm; Supplier 1: Digi-Key; Supplier Part Number 1: SL23EP08SC-3-ND; Supplier 2: Mouser; Supplier Part Number 2: 634-SL23EP08SC-3; Frequency (MHz): 10 to 220; Packing: Tube; Mounting Technology: Surface Mount; ComponentLink1Description: Manufacturer URL; ComponentLink1URL: http://www.silabs.com/; ComponentLink2Description: Datasheet; ComponentLink2URL: http://www.silabs.com/Support%20Documents/TechnicalDocs/SL23EP08.pdf; ComponentLink3Description: Package Specification; ComponentLink3URL: http://www.silabs.com/Support%20Documents/TechnicalDocs/SL2309.pdf
footprint SLAB-SOIC-16_N (SOIC, 16-Leads, Body 10x4mm, Pitch 1.27mm, IPC Medium Density)
footprint SLAB-SOIC-16_L (SOIC, 16-Leads, Body 10x4mm, Pitch 1.27mm, IPC High Density)
footprint SLAB-SOIC-16_M (SOIC, 16-Leads, Body 10x4mm, Pitch 1.27mm, IPC Low Density)
pins: 1 CLKIN (in) "Reference Frequency Clock Input. 5V tolerant input. Weak pull-down (250k ohm)", 2 CLKA1 (hiz) "Buffered Clock Output, Bank A. Weak pull-down (250k ohm).", 3 CLKA2 (hiz) "Buffered Clock Output, Bank A. Weak pull-down (250k ohm).", 4 VDD (power) "3.3V or 2.5V Power Supply.", 5 GND (power) "Power Ground.", 6 CLKB1 (hiz) "Buffered Clock Output, Bank B. Weak pull-down (250k ohm).", 7 CLKB2 (hiz) "Buffered Clock Output, Bank B. Weak pull-down (250k ohm).", 8 S2 (in) "Select Input, select pin S2. Weak pull-up (250k ohm).", 9 S1 (in) "Select Input, select pin S1. Weak pull-up (250k ohm).", 10 CLKB3 (hiz) "Buffered Clock Output, Bank B. Weak pull-down (250k ohm).", 11 CLKB4 (hiz) "Buffered Clock Output, Bank B. Weak pull-down (250k ohm).", 12 GND (power) "Power Ground.", 13 VDD (power) "3.3V or 2.5V Power Supply.", 14 CLKA3 (hiz) "Buffered Clock Output, Bank A. Weak pull-down (250k ohm).", 15 CLKA4 (hiz) "Buffered Clock Output, Bank A. Weak pull-down (250k ohm).", 16 FBK (in) "PLL Feedback input."

## SL23EP08SC-3T
designator U?
Low Jitter and Skew Zero Delay Buffer (ZDB), 10 to 220 MHz, 0 to 70 degC, 16-pin SOIC, Tape and Reel; Manufacturer: Silicon Labs; PartNumber: SL23EP08SC-3T; Output Format: LVCMOS; Sub-Family: Clock Buffers; DatasheetVersion: Rev. 1.0; PackageReference: SOIC-16; PackageDescription: 16-Pin Small-Outline Integrated Circuit, Body 9.9 x 3.9 mm, Pitch 1.27 mm; Supplier 1: Digi-Key; Supplier Part Number 1: SL23EP08SC-3T-ND; Supplier 2: Mouser; Supplier Part Number 2: 634-SL23EP08SC-3T; Frequency (MHz): 10 to 220; Packing: Tape and Reel; Mounting Technology: Surface Mount; ComponentLink1Description: Manufacturer URL; ComponentLink1URL: http://www.silabs.com/; ComponentLink2Description: Datasheet; ComponentLink2URL: http://www.silabs.com/Support%20Documents/TechnicalDocs/SL23EP08.pdf; ComponentLink3Description: Package Specification; ComponentLink3URL: http://www.silabs.com/Support%20Documents/TechnicalDocs/SL2309.pdf
footprint SLAB-SOIC-16_N (SOIC, 16-Leads, Body 10x4mm, Pitch 1.27mm, IPC Medium Density)
footprint SLAB-SOIC-16_L (SOIC, 16-Leads, Body 10x4mm, Pitch 1.27mm, IPC High Density)
footprint SLAB-SOIC-16_M (SOIC, 16-Leads, Body 10x4mm, Pitch 1.27mm, IPC Low Density)
pins: 1 CLKIN (in) "Reference Frequency Clock Input. 5V tolerant input. Weak pull-down (250k ohm)", 2 CLKA1 (hiz) "Buffered Clock Output, Bank A. Weak pull-down (250k ohm).", 3 CLKA2 (hiz) "Buffered Clock Output, Bank A. Weak pull-down (250k ohm).", 4 VDD (power) "3.3V or 2.5V Power Supply.", 5 GND (power) "Power Ground.", 6 CLKB1 (hiz) "Buffered Clock Output, Bank B. Weak pull-down (250k ohm).", 7 CLKB2 (hiz) "Buffered Clock Output, Bank B. Weak pull-down (250k ohm).", 8 S2 (in) "Select Input, select pin S2. Weak pull-up (250k ohm).", 9 S1 (in) "Select Input, select pin S1. Weak pull-up (250k ohm).", 10 CLKB3 (hiz) "Buffered Clock Output, Bank B. Weak pull-down (250k ohm).", 11 CLKB4 (hiz) "Buffered Clock Output, Bank B. Weak pull-down (250k ohm).", 12 GND (power) "Power Ground.", 13 VDD (power) "3.3V or 2.5V Power Supply.", 14 CLKA3 (hiz) "Buffered Clock Output, Bank A. Weak pull-down (250k ohm).", 15 CLKA4 (hiz) "Buffered Clock Output, Bank A. Weak pull-down (250k ohm).", 16 FBK (in) "PLL Feedback input."

## SL23EP08SC-4
designator U?
Low Jitter and Skew Zero Delay Buffer (ZDB), 10 to 220 MHz, 0 to 70 degC, 16-pin SOIC, Tube; Manufacturer: Silicon Labs; PartNumber: SL23EP08SC-4; Output Format: LVCMOS; Sub-Family: Clock Buffers; DatasheetVersion: Rev. 1.0; PackageReference: SOIC-16; PackageDescription: 16-Pin Small-Outline Integrated Circuit, Body 9.9 x 3.9 mm, Pitch 1.27 mm; Supplier 1: Digi-Key; Supplier Part Number 1: SL23EP08SC-4-ND; Supplier 2: Mouser; Supplier Part Number 2: 634-SL23EP08SC-4; Frequency (MHz): 10 to 220; Packing: Tube; Mounting Technology: Surface Mount; ComponentLink1Description: Manufacturer URL; ComponentLink1URL: http://www.silabs.com/; ComponentLink2Description: Datasheet; ComponentLink2URL: http://www.silabs.com/Support%20Documents/TechnicalDocs/SL23EP08.pdf; ComponentLink3Description: Package Specification; ComponentLink3URL: http://www.silabs.com/Support%20Documents/TechnicalDocs/SL2309.pdf
footprint SLAB-SOIC-16_N (SOIC, 16-Leads, Body 10x4mm, Pitch 1.27mm, IPC Medium Density)
footprint SLAB-SOIC-16_L (SOIC, 16-Leads, Body 10x4mm, Pitch 1.27mm, IPC High Density)
footprint SLAB-SOIC-16_M (SOIC, 16-Leads, Body 10x4mm, Pitch 1.27mm, IPC Low Density)
pins: 1 CLKIN (in) "Reference Frequency Clock Input. 5V tolerant input. Weak pull-down (250k ohm)", 2 CLKA1 (hiz) "Buffered Clock Output, Bank A. Weak pull-down (250k ohm).", 3 CLKA2 (hiz) "Buffered Clock Output, Bank A. Weak pull-down (250k ohm).", 4 VDD (power) "3.3V or 2.5V Power Supply.", 5 GND (power) "Power Ground.", 6 CLKB1 (hiz) "Buffered Clock Output, Bank B. Weak pull-down (250k ohm).", 7 CLKB2 (hiz) "Buffered Clock Output, Bank B. Weak pull-down (250k ohm).", 8 S2 (in) "Select Input, select pin S2. Weak pull-up (250k ohm).", 9 S1 (in) "Select Input, select pin S1. Weak pull-up (250k ohm).", 10 CLKB3 (hiz) "Buffered Clock Output, Bank B. Weak pull-down (250k ohm).", 11 CLKB4 (hiz) "Buffered Clock Output, Bank B. Weak pull-down (250k ohm).", 12 GND (power) "Power Ground.", 13 VDD (power) "3.3V or 2.5V Power Supply.", 14 CLKA3 (hiz) "Buffered Clock Output, Bank A. Weak pull-down (250k ohm).", 15 CLKA4 (hiz) "Buffered Clock Output, Bank A. Weak pull-down (250k ohm).", 16 FBK (in) "PLL Feedback input."

## SL23EP08SC-4T
designator U?
Low Jitter and Skew Zero Delay Buffer (ZDB), 10 to 220 MHz, 0 to 70 degC, 16-pin SOIC, Tape and Reel; Manufacturer: Silicon Labs; PartNumber: SL23EP08SC-4T; Output Format: LVCMOS; Sub-Family: Clock Buffers; DatasheetVersion: Rev. 1.0; PackageReference: SOIC-16; PackageDescription: 16-Pin Small-Outline Integrated Circuit, Body 9.9 x 3.9 mm, Pitch 1.27 mm; Supplier 1: Digi-Key; Supplier Part Number 1: SL23EP08SC-4T-ND; Supplier 2: Mouser; Supplier Part Number 2: 634-SL23EP08SC-4T; Frequency (MHz): 10 to 220; Packing: Tape and Reel; Mounting Technology: Surface Mount; ComponentLink1Description: Manufacturer URL; ComponentLink1URL: http://www.silabs.com/; ComponentLink2Description: Datasheet; ComponentLink2URL: http://www.silabs.com/Support%20Documents/TechnicalDocs/SL23EP08.pdf; ComponentLink3Description: Package Specification; ComponentLink3URL: http://www.silabs.com/Support%20Documents/TechnicalDocs/SL2309.pdf
footprint SLAB-SOIC-16_N (SOIC, 16-Leads, Body 10x4mm, Pitch 1.27mm, IPC Medium Density)
footprint SLAB-SOIC-16_L (SOIC, 16-Leads, Body 10x4mm, Pitch 1.27mm, IPC High Density)
footprint SLAB-SOIC-16_M (SOIC, 16-Leads, Body 10x4mm, Pitch 1.27mm, IPC Low Density)
pins: 1 CLKIN (in) "Reference Frequency Clock Input. 5V tolerant input. Weak pull-down (250k ohm)", 2 CLKA1 (hiz) "Buffered Clock Output, Bank A. Weak pull-down (250k ohm).", 3 CLKA2 (hiz) "Buffered Clock Output, Bank A. Weak pull-down (250k ohm).", 4 VDD (power) "3.3V or 2.5V Power Supply.", 5 GND (power) "Power Ground.", 6 CLKB1 (hiz) "Buffered Clock Output, Bank B. Weak pull-down (250k ohm).", 7 CLKB2 (hiz) "Buffered Clock Output, Bank B. Weak pull-down (250k ohm).", 8 S2 (in) "Select Input, select pin S2. Weak pull-up (250k ohm).", 9 S1 (in) "Select Input, select pin S1. Weak pull-up (250k ohm).", 10 CLKB3 (hiz) "Buffered Clock Output, Bank B. Weak pull-down (250k ohm).", 11 CLKB4 (hiz) "Buffered Clock Output, Bank B. Weak pull-down (250k ohm).", 12 GND (power) "Power Ground.", 13 VDD (power) "3.3V or 2.5V Power Supply.", 14 CLKA3 (hiz) "Buffered Clock Output, Bank A. Weak pull-down (250k ohm).", 15 CLKA4 (hiz) "Buffered Clock Output, Bank A. Weak pull-down (250k ohm).", 16 FBK (in) "PLL Feedback input."

## SL23EP08SC-5H
designator U?
Low Jitter and Skew Zero Delay Buffer (ZDB), 10 to 220 MHz, 0 to 70 degC, 16-pin SOIC, Tube; Manufacturer: Silicon Labs; PartNumber: SL23EP08SC-5H; Output Format: LVCMOS; Sub-Family: Clock Buffers; DatasheetVersion: Rev. 1.0; PackageReference: SOIC-16; PackageDescription: 16-Pin Small-Outline Integrated Circuit, Body 9.9 x 3.9 mm, Pitch 1.27 mm; Supplier 1: Digi-Key; Supplier Part Number 1: SL23EP08SC-5H-ND; Supplier 2: Mouser; Supplier Part Number 2: 634-SL23EP08SC-5H; Frequency (MHz): 10 to 220; Packing: Tube; Mounting Technology: Surface Mount; ComponentLink1Description: Manufacturer URL; ComponentLink1URL: http://www.silabs.com/; ComponentLink2Description: Datasheet; ComponentLink2URL: http://www.silabs.com/Support%20Documents/TechnicalDocs/SL23EP08.pdf; ComponentLink3Description: Package Specification; ComponentLink3URL: http://www.silabs.com/Support%20Documents/TechnicalDocs/SL2309.pdf
footprint SLAB-SOIC-16_N (SOIC, 16-Leads, Body 10x4mm, Pitch 1.27mm, IPC Medium Density)
footprint SLAB-SOIC-16_L (SOIC, 16-Leads, Body 10x4mm, Pitch 1.27mm, IPC High Density)
footprint SLAB-SOIC-16_M (SOIC, 16-Leads, Body 10x4mm, Pitch 1.27mm, IPC Low Density)
pins: 1 CLKIN (in) "Reference Frequency Clock Input. 5V tolerant input. Weak pull-down (250k ohm)", 2 CLKA1 (hiz) "Buffered Clock Output, Bank A. Weak pull-down (250k ohm).", 3 CLKA2 (hiz) "Buffered Clock Output, Bank A. Weak pull-down (250k ohm).", 4 VDD (power) "3.3V or 2.5V Power Supply.", 5 GND (power) "Power Ground.", 6 CLKB1 (hiz) "Buffered Clock Output, Bank B. Weak pull-down (250k ohm).", 7 CLKB2 (hiz) "Buffered Clock Output, Bank B. Weak pull-down (250k ohm).", 8 S2 (in) "Select Input, select pin S2. Weak pull-up (250k ohm).", 9 S1 (in) "Select Input, select pin S1. Weak pull-up (250k ohm).", 10 CLKB3 (hiz) "Buffered Clock Output, Bank B. Weak pull-down (250k ohm).", 11 CLKB4 (hiz) "Buffered Clock Output, Bank B. Weak pull-down (250k ohm).", 12 GND (power) "Power Ground.", 13 VDD (power) "3.3V or 2.5V Power Supply.", 14 CLKA3 (hiz) "Buffered Clock Output, Bank A. Weak pull-down (250k ohm).", 15 CLKA4 (hiz) "Buffered Clock Output, Bank A. Weak pull-down (250k ohm).", 16 FBK (in) "PLL Feedback input."

## SL23EP08SC-5HT
designator U?
Low Jitter and Skew Zero Delay Buffer (ZDB), 10 to 220 MHz, 0 to 70 degC, 16-pin SOIC, Tape and Reel; Manufacturer: Silicon Labs; PartNumber: SL23EP08SC-5HT; Output Format: LVCMOS; Sub-Family: Clock Buffers; DatasheetVersion: Rev. 1.0; PackageReference: SOIC-16; PackageDescription: 16-Pin Small-Outline Integrated Circuit, Body 9.9 x 3.9 mm, Pitch 1.27 mm; Supplier 1: Digi-Key; Supplier Part Number 1: SL23EP08SC-5HT-ND; Supplier 2: Mouser; Supplier Part Number 2: 634-SL23EP08SC-5HT; Frequency (MHz): 10 to 220; Packing: Tape and Reel; Mounting Technology: Surface Mount; ComponentLink1Description: Manufacturer URL; ComponentLink1URL: http://www.silabs.com/; ComponentLink2Description: Datasheet; ComponentLink2URL: http://www.silabs.com/Support%20Documents/TechnicalDocs/SL23EP08.pdf; ComponentLink3Description: Package Specification; ComponentLink3URL: http://www.silabs.com/Support%20Documents/TechnicalDocs/SL2309.pdf
footprint SLAB-SOIC-16_N (SOIC, 16-Leads, Body 10x4mm, Pitch 1.27mm, IPC Medium Density)
footprint SLAB-SOIC-16_L (SOIC, 16-Leads, Body 10x4mm, Pitch 1.27mm, IPC High Density)
footprint SLAB-SOIC-16_M (SOIC, 16-Leads, Body 10x4mm, Pitch 1.27mm, IPC Low Density)
pins: 1 CLKIN (in) "Reference Frequency Clock Input. 5V tolerant input. Weak pull-down (250k ohm)", 2 CLKA1 (hiz) "Buffered Clock Output, Bank A. Weak pull-down (250k ohm).", 3 CLKA2 (hiz) "Buffered Clock Output, Bank A. Weak pull-down (250k ohm).", 4 VDD (power) "3.3V or 2.5V Power Supply.", 5 GND (power) "Power Ground.", 6 CLKB1 (hiz) "Buffered Clock Output, Bank B. Weak pull-down (250k ohm).", 7 CLKB2 (hiz) "Buffered Clock Output, Bank B. Weak pull-down (250k ohm).", 8 S2 (in) "Select Input, select pin S2. Weak pull-up (250k ohm).", 9 S1 (in) "Select Input, select pin S1. Weak pull-up (250k ohm).", 10 CLKB3 (hiz) "Buffered Clock Output, Bank B. Weak pull-down (250k ohm).", 11 CLKB4 (hiz) "Buffered Clock Output, Bank B. Weak pull-down (250k ohm).", 12 GND (power) "Power Ground.", 13 VDD (power) "3.3V or 2.5V Power Supply.", 14 CLKA3 (hiz) "Buffered Clock Output, Bank A. Weak pull-down (250k ohm).", 15 CLKA4 (hiz) "Buffered Clock Output, Bank A. Weak pull-down (250k ohm).", 16 FBK (in) "PLL Feedback input."

## SL23EP08SI-1
designator U?
Low Jitter and Skew Zero Delay Buffer (ZDB), 10 to 220 MHz, -40 to 85 degC, 16-pin SOIC, Tube; Manufacturer: Silicon Labs; PartNumber: SL23EP08SI-1; Output Format: LVCMOS; Sub-Family: Clock Buffers; DatasheetVersion: Rev. 1.0; PackageReference: SOIC-16; PackageDescription: 16-Pin Small-Outline Integrated Circuit, Body 9.9 x 3.9 mm, Pitch 1.27 mm; Supplier 1: Digi-Key; Supplier Part Number 1: SL23EP08SI-1-ND; Supplier 2: Mouser; Supplier Part Number 2: 634-SL23EP08SI-1; Frequency (MHz): 10 to 220; Packing: Tube; Mounting Technology: Surface Mount; ComponentLink1Description: Manufacturer URL; ComponentLink1URL: http://www.silabs.com/; ComponentLink2Description: Datasheet; ComponentLink2URL: http://www.silabs.com/Support%20Documents/TechnicalDocs/SL23EP08.pdf; ComponentLink3Description: Package Specification; ComponentLink3URL: http://www.silabs.com/Support%20Documents/TechnicalDocs/SL2309.pdf
footprint SLAB-SOIC-16_N (SOIC, 16-Leads, Body 10x4mm, Pitch 1.27mm, IPC Medium Density)
footprint SLAB-SOIC-16_L (SOIC, 16-Leads, Body 10x4mm, Pitch 1.27mm, IPC High Density)
footprint SLAB-SOIC-16_M (SOIC, 16-Leads, Body 10x4mm, Pitch 1.27mm, IPC Low Density)
pins: 1 CLKIN (in) "Reference Frequency Clock Input. 5V tolerant input. Weak pull-down (250k ohm)", 2 CLKA1 (hiz) "Buffered Clock Output, Bank A. Weak pull-down (250k ohm).", 3 CLKA2 (hiz) "Buffered Clock Output, Bank A. Weak pull-down (250k ohm).", 4 VDD (power) "3.3V or 2.5V Power Supply.", 5 GND (power) "Power Ground.", 6 CLKB1 (hiz) "Buffered Clock Output, Bank B. Weak pull-down (250k ohm).", 7 CLKB2 (hiz) "Buffered Clock Output, Bank B. Weak pull-down (250k ohm).", 8 S2 (in) "Select Input, select pin S2. Weak pull-up (250k ohm).", 9 S1 (in) "Select Input, select pin S1. Weak pull-up (250k ohm).", 10 CLKB3 (hiz) "Buffered Clock Output, Bank B. Weak pull-down (250k ohm).", 11 CLKB4 (hiz) "Buffered Clock Output, Bank B. Weak pull-down (250k ohm).", 12 GND (power) "Power Ground.", 13 VDD (power) "3.3V or 2.5V Power Supply.", 14 CLKA3 (hiz) "Buffered Clock Output, Bank A. Weak pull-down (250k ohm).", 15 CLKA4 (hiz) "Buffered Clock Output, Bank A. Weak pull-down (250k ohm).", 16 FBK (in) "PLL Feedback input."

## SL23EP08SI-1H
designator U?
Low Jitter and Skew Zero Delay Buffer (ZDB), 10 to 220 MHz, -40 to 85 degC, 16-pin SOIC, Tube; Manufacturer: Silicon Labs; PartNumber: SL23EP08SI-1H; Output Format: LVCMOS; Sub-Family: Clock Buffers; DatasheetVersion: Rev. 1.0; PackageReference: SOIC-16; PackageDescription: 16-Pin Small-Outline Integrated Circuit, Body 9.9 x 3.9 mm, Pitch 1.27 mm; Supplier 1: Digi-Key; Supplier Part Number 1: SL23EP08SI-1H-ND; Supplier 2: Mouser; Supplier Part Number 2: 634-SL23EP08SI-1H; Frequency (MHz): 10 to 220; Packing: Tube; Mounting Technology: Surface Mount; ComponentLink1Description: Manufacturer URL; ComponentLink1URL: http://www.silabs.com/; ComponentLink2Description: Datasheet; ComponentLink2URL: http://www.silabs.com/Support%20Documents/TechnicalDocs/SL23EP08.pdf; ComponentLink3Description: Package Specification; ComponentLink3URL: http://www.silabs.com/Support%20Documents/TechnicalDocs/SL2309.pdf
footprint SLAB-SOIC-16_N (SOIC, 16-Leads, Body 10x4mm, Pitch 1.27mm, IPC Medium Density)
footprint SLAB-SOIC-16_L (SOIC, 16-Leads, Body 10x4mm, Pitch 1.27mm, IPC High Density)
footprint SLAB-SOIC-16_M (SOIC, 16-Leads, Body 10x4mm, Pitch 1.27mm, IPC Low Density)
pins: 1 CLKIN (in) "Reference Frequency Clock Input. 5V tolerant input. Weak pull-down (250k ohm)", 2 CLKA1 (hiz) "Buffered Clock Output, Bank A. Weak pull-down (250k ohm).", 3 CLKA2 (hiz) "Buffered Clock Output, Bank A. Weak pull-down (250k ohm).", 4 VDD (power) "3.3V or 2.5V Power Supply.", 5 GND (power) "Power Ground.", 6 CLKB1 (hiz) "Buffered Clock Output, Bank B. Weak pull-down (250k ohm).", 7 CLKB2 (hiz) "Buffered Clock Output, Bank B. Weak pull-down (250k ohm).", 8 S2 (in) "Select Input, select pin S2. Weak pull-up (250k ohm).", 9 S1 (in) "Select Input, select pin S1. Weak pull-up (250k ohm).", 10 CLKB3 (hiz) "Buffered Clock Output, Bank B. Weak pull-down (250k ohm).", 11 CLKB4 (hiz) "Buffered Clock Output, Bank B. Weak pull-down (250k ohm).", 12 GND (power) "Power Ground.", 13 VDD (power) "3.3V or 2.5V Power Supply.", 14 CLKA3 (hiz) "Buffered Clock Output, Bank A. Weak pull-down (250k ohm).", 15 CLKA4 (hiz) "Buffered Clock Output, Bank A. Weak pull-down (250k ohm).", 16 FBK (in) "PLL Feedback input."

## SL23EP08SI-1HT
designator U?
Low Jitter and Skew Zero Delay Buffer (ZDB), 10 to 220 MHz, -40 to 85 degC, 16-pin SOIC, Tape and Reel; Manufacturer: Silicon Labs; PartNumber: SL23EP08SI-1HT; Output Format: LVCMOS; Sub-Family: Clock Buffers; DatasheetVersion: Rev. 1.0; PackageReference: SOIC-16; PackageDescription: 16-Pin Small-Outline Integrated Circuit, Body 9.9 x 3.9 mm, Pitch 1.27 mm; Supplier 1: Digi-Key; Supplier Part Number 1: SL23EP08SI-1HT-ND; Supplier 2: Mouser; Supplier Part Number 2: 634-SL23EP08SI-1HT; Frequency (MHz): 10 to 220; Packing: Tape and Reel; Mounting Technology: Surface Mount; ComponentLink1Description: Manufacturer URL; ComponentLink1URL: http://www.silabs.com/; ComponentLink2Description: Datasheet; ComponentLink2URL: http://www.silabs.com/Support%20Documents/TechnicalDocs/SL23EP08.pdf; ComponentLink3Description: Package Specification; ComponentLink3URL: http://www.silabs.com/Support%20Documents/TechnicalDocs/SL2309.pdf
footprint SLAB-SOIC-16_N (SOIC, 16-Leads, Body 10x4mm, Pitch 1.27mm, IPC Medium Density)
footprint SLAB-SOIC-16_L (SOIC, 16-Leads, Body 10x4mm, Pitch 1.27mm, IPC High Density)
footprint SLAB-SOIC-16_M (SOIC, 16-Leads, Body 10x4mm, Pitch 1.27mm, IPC Low Density)
pins: 1 CLKIN (in) "Reference Frequency Clock Input. 5V tolerant input. Weak pull-down (250k ohm)", 2 CLKA1 (hiz) "Buffered Clock Output, Bank A. Weak pull-down (250k ohm).", 3 CLKA2 (hiz) "Buffered Clock Output, Bank A. Weak pull-down (250k ohm).", 4 VDD (power) "3.3V or 2.5V Power Supply.", 5 GND (power) "Power Ground.", 6 CLKB1 (hiz) "Buffered Clock Output, Bank B. Weak pull-down (250k ohm).", 7 CLKB2 (hiz) "Buffered Clock Output, Bank B. Weak pull-down (250k ohm).", 8 S2 (in) "Select Input, select pin S2. Weak pull-up (250k ohm).", 9 S1 (in) "Select Input, select pin S1. Weak pull-up (250k ohm).", 10 CLKB3 (hiz) "Buffered Clock Output, Bank B. Weak pull-down (250k ohm).", 11 CLKB4 (hiz) "Buffered Clock Output, Bank B. Weak pull-down (250k ohm).", 12 GND (power) "Power Ground.", 13 VDD (power) "3.3V or 2.5V Power Supply.", 14 CLKA3 (hiz) "Buffered Clock Output, Bank A. Weak pull-down (250k ohm).", 15 CLKA4 (hiz) "Buffered Clock Output, Bank A. Weak pull-down (250k ohm).", 16 FBK (in) "PLL Feedback input."